# EAGLE library part USB2422 (library pepin)
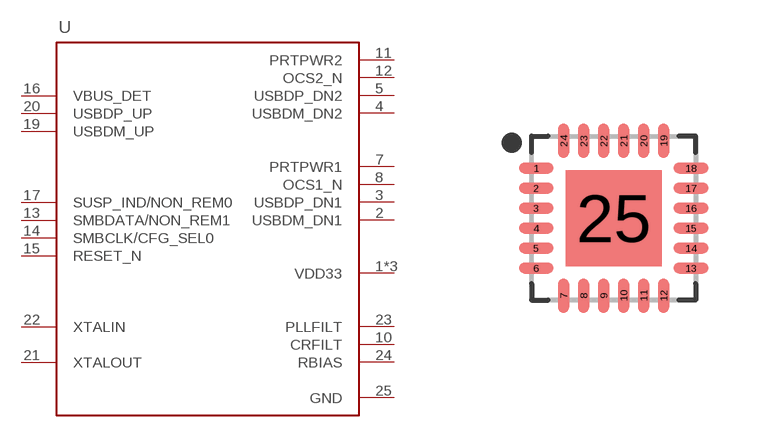
[diagram p24: symbol with the pads of QFN50P400X400X100-25T240N; footprint QFN50P400X400X100-25T240N]

Designator prefix U

## USB2422SQFN-24  [QFN50P400X400X100-25T240N]
1  VDD33  pwr
2  USBDM_DN1
3  USBDP_DN1
4  USBDM_DN2
5  USBDP_DN2
7  PRTPWR1
8  OCS1_N
9  VDD33  pwr
10  CRFILT
11  PRTPWR2
12  OCS2_N
13  SMBDATA/NON_REM1
14  SMBCLK/CFG_SEL0
15  RESET_N
16  VBUS_DET
17  SUSP_IND/NON_REM0
18  VDD33  pwr
19  USBDM_UP
20  USBDP_UP
21  XTALOUT
22  XTALIN
23  PLLFILT
24  RBIAS
25  GND  pwr

## Footprint QFN50P400X400X100-25T240N (pad centres in mm)
24-QFN, 0.50 mm pitch, 4.00 X 4.00 X 1.00 mm body, 2.40 X 2.40 mm thermal pad 24-pin QFN package with 0.50 mm pitch with body size 4.00 X 4.00 X 1.00 mm and thermal pad size 2.40 X 2.40 mm
smd 0.86 x 0.27: 1 -1.935,1.25; 2 -1.935,0.75; 3 -1.935,0.25; 4 -1.935,-0.25; 5 -1.935,-0.75; 6 -1.935,-1.25; 13 1.935,-1.25; 14 1.935,-0.75; 15 1.935,-0.25; 16 1.935,0.25; 17 1.935,0.75; 18 1.935,1.25
smd 0.27 x 0.86: 7 -1.25,-1.935; 8 -0.75,-1.935; 9 -0.25,-1.935; 10 0.25,-1.935; 11 0.75,-1.935; 12 1.25,-1.935; 19 1.25,1.935; 20 0.75,1.935; 21 0.25,1.935; 22 -0.25,1.935; 23 -0.75,1.935; 24 -1.25,1.935
smd 2.4 x 2.4: 25 0,0